# EAGLE library part CAT28C64BWI-12 (library Catalyst_Semiconductor_By_element14_Batch_1)
64K-Bit CMOS PARALLEL EEPROM
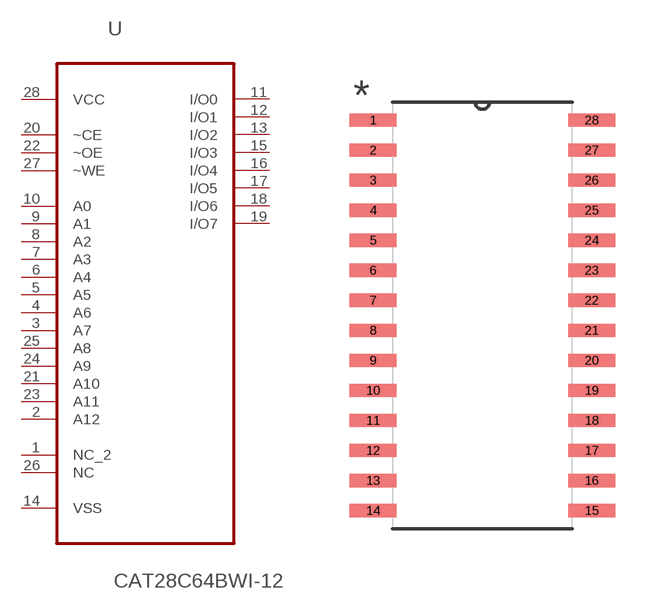
[diagram p26: symbol with the pads of SOIC127P1031X265-28N; footprint SOIC127P1031X265-28N]

Designator prefix U

## CAT28C64BWI-12 (MPN: CAT28C64BWI-12; OC_FARNELL: 1718312; OC_NEWARK: 06R0739; PACKAGE: SOIC-28; SUPPLIER: CATALYST SEMICONDUCTOR)  [SOIC127P1031X265-28N]
1  NC_2  nc
2  A12  in
3  A7  in
4  A6  in
5  A5  in
6  A4  in
7  A3  in
8  A2  in
9  A1  in
10  A0  in
11  I/O0
12  I/O1
13  I/O2
14  VSS  pas
15  I/O3
16  I/O4
17  I/O5
18  I/O6
19  I/O7
20  ~CE  in
21  A10
22  ~OE  in
23  A11  in
24  A9  in
25  A8  in
26  NC  nc
27  ~WE  in
28  VCC  pwr

## Footprint SOIC127P1031X265-28N (pad centres in mm)
smd 1.981 x 0.559: 1 -4.623,8.255; 2 -4.623,6.985; 3 -4.623,5.715; 4 -4.623,4.445; 5 -4.623,3.175; 6 -4.623,1.905; 7 -4.623,0.635; 8 -4.623,-0.635; 9 -4.623,-1.905; 10 -4.623,-3.175; 11 -4.623,-4.445; 12 -4.623,-5.715; 13 -4.623,-6.985; 14 -4.623,-8.255; 15 4.623,-8.255; 16 4.623,-6.985; 17 4.623,-5.715; 18 4.623,-4.445; 19 4.623,-3.175; 20 4.623,-1.905; 21 4.623,-0.635; 22 4.623,0.635; 23 4.623,1.905; 24 4.623,3.175; 25 4.623,4.445; 26 4.623,5.715; 27 4.623,6.985; 28 4.623,8.255